# EAGLE library part USB-B-S-RA-WT-SPCC (library USB-B-S-RA-WT-SPCC)
USB-B (USB TYPE-B) Receptacle Connector 4 Position Through Hole, Right Angle Source: Datasheet <https://www.mouser.co.uk/ProductDetail/Adam-Tech/USB-B-S-RA-WT-SPCC?qs=HoCaDK9Nz5cHxCm3vWfCRw==>
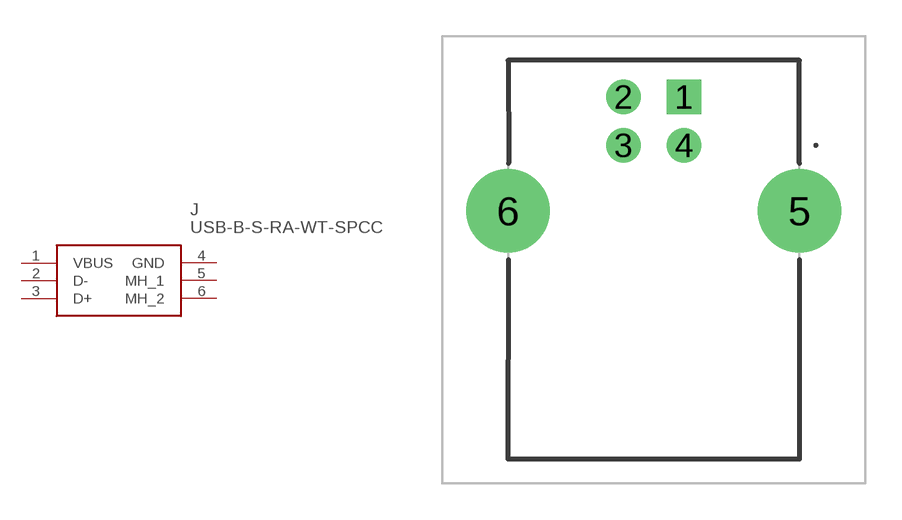
[diagram p0: symbol with the pads of USBBSRAWTSPCC; footprint USBBSRAWTSPCC]

Designator prefix J

## USB-B-S-RA-WT-SPCC (Description: USB-B (USB TYPE-B) Receptacle Connector 4 Position Through Hole, Right Angle; Height: 11.43mm; Manufacturer_Name: Adam Tech; Manufacturer_Part_Number: USB-B-S-RA-WT-SPCC; Mouser_Part_Number: 737-USBBSRAWTSPCC; Mouser_Price-Stock: https://www.mouser.co.uk/ProductDetail/Adam-Tech/USB-B-S-RA-WT-SPCC?qs=HoCaDK9Nz5cHxCm3vWfCRw%3D%3D)  [USBBSRAWTSPCC]
1  VBUS
2  D-
3  D+
4  GND
5  MH_1
6  MH_2

## Footprint USBBSRAWTSPCC (pad centres in mm)
USB-B-S-RA-WT-SPCC-2
drill 0.92 pad 1.431 square: 1 0,0
drill 0.92 pad 1.431: 2 -2.5,0; 3 -2.5,-2; 4 0,-2
drill 2.3 pad 3.45: 5 4.77,-4.71; 6 -7.27,-4.71